# Altium footprint library SPECCY2010_Library.PcbLib: 23 footprints (part 1 of 2)
Each footprint in its own frame and in the unit in brackets; x right, y up, seen from the top. Pads: shape width x height; smd on the part's side, far side on the other; paste and mask are expansions set on the pad; w line width, h text height; cw(c..) or ccw(c..) is an arc to the next point about the centre after c.
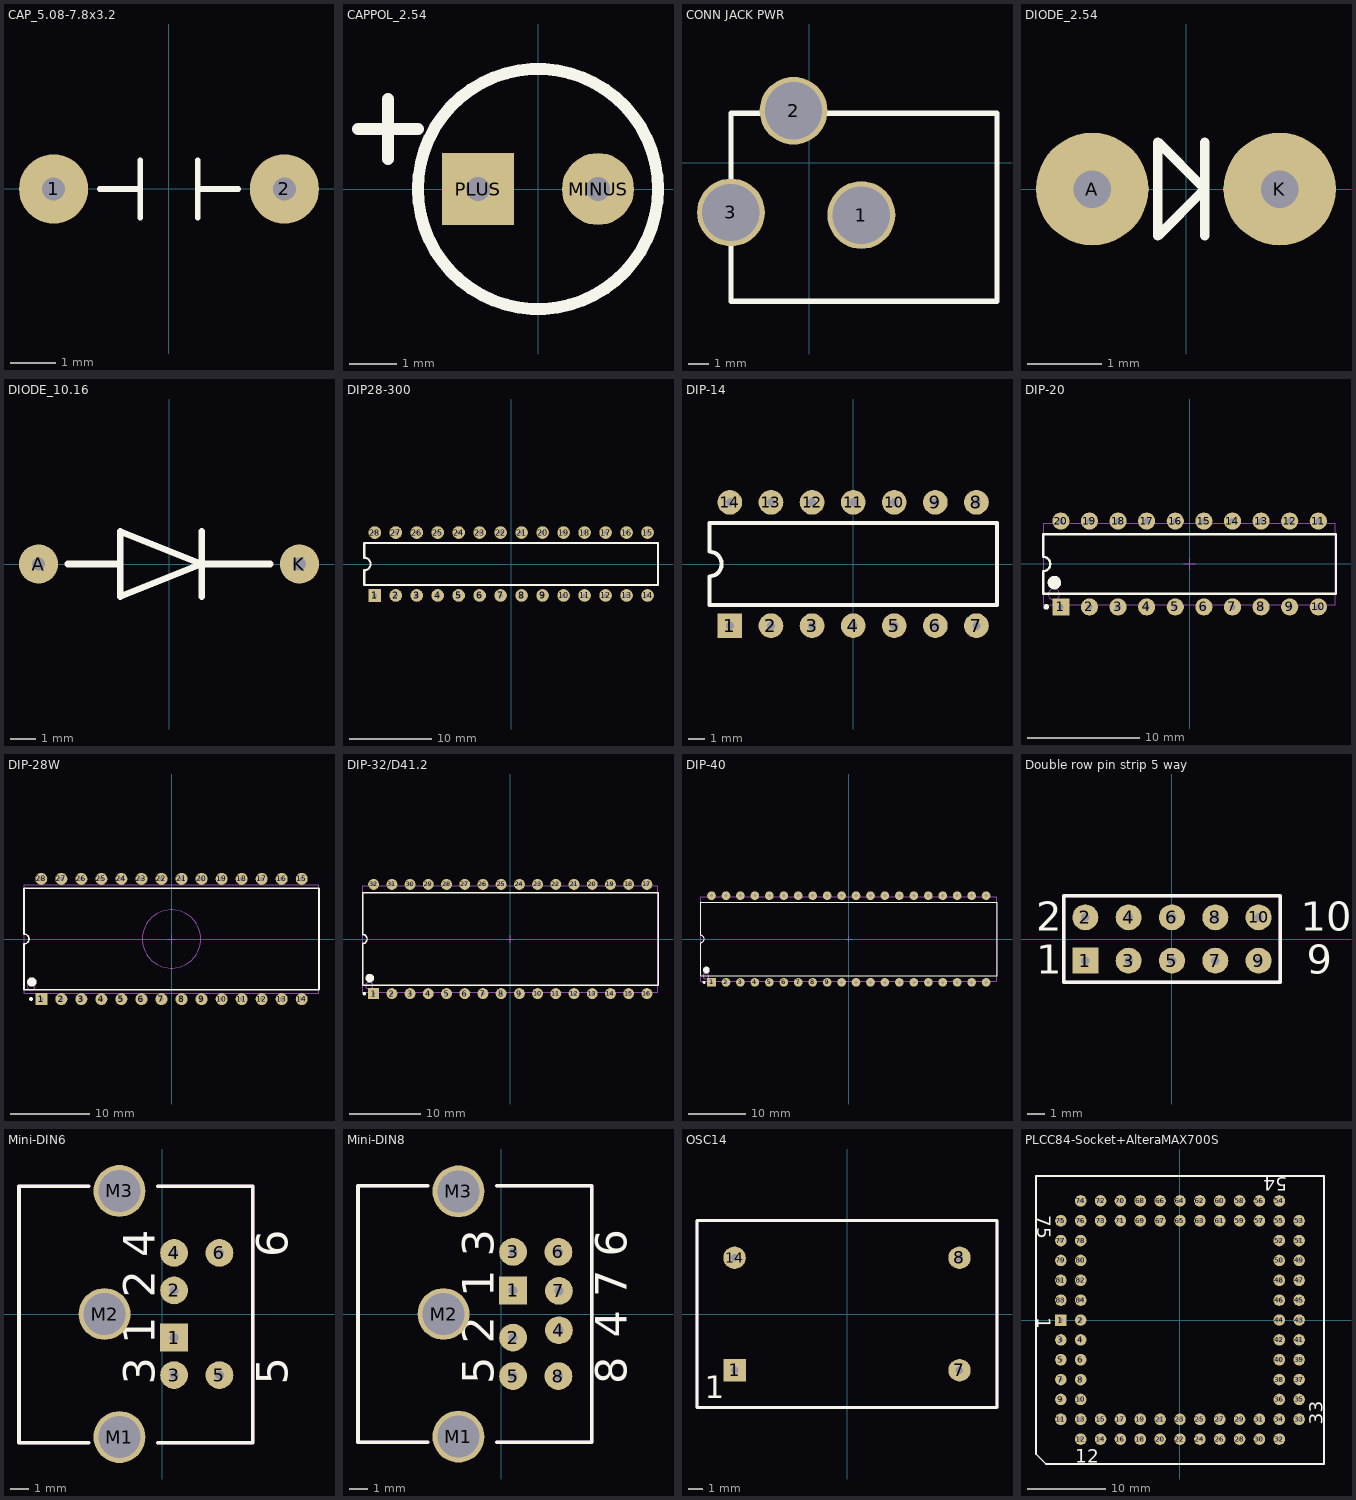
[diagram p0: the footprints below, top view; thin cyan lines are the x and y axes]

## CAP_5.08-7.8x3.2 [mil] "Capacitor, Ceramic, Thru-Hole, Dipped Radial; Body 7.8 x 3.2 mm (WxT) Pin Spacing 5.08 mm (typ)"
height 236.22
pads (2):
  round 60 hole 20: 1(-100,0) 2(100,0)
Top Overlay:
  lines w5: -60,0 -25,0 ; -25,-25 -25,25 ; 25,-25 25,25 ; 25,0 60,0
3D body: height 170, standoff -95.27, extent -110,-42.5 110,42.5

## CAPPOL_2.54 [mil]
height 100
pads (2):
  round 60 hole 20: MINUS(50,0)
  rect 60x60 hole 20: PLUS(-50,0)
Top Overlay:
  circle w10: c0,0 r100
  lines w10: -150,50 -100,50 ; -125,25 -125,75
3D body: height 453.76, standoff -118.67, extent -125.01,-125.01 125.02,125.02

## CONN JACK PWR [mil] "Разъем питания (штекер)"
height 200
pads (3):
  round 130 hole 110: 1(100,-100) 2(-30,100) 3(-150,-95)
Top Overlay:
  lines w10: -150,-265 360,-265 360,95 -150,95 -150,-265
3D body: height 125.67, standoff -453.07, extent -188.01,-270.08 388.01,100

## DIODE_2.54 [mil] "Диод DO35 вертикально"
height 100
pads (2):
  round 60 hole 20 unplated: A(-50,0) K(50,0)
Top Overlay:
  lines w5: 10,-25 10,25 ; -15,-25 -15,25 10,0 -15,-25
  lines w10: -50,0 -25,0 ; 25,0 50,0
3D body: height 196.61, standoff -60, extent -82.48,-32.48 58.5,32.48

## DIODE_10.16 [mil] "Диод DO35 горизонтально"
height 100
pads (2):
  round 60 hole 20 unplated: A(-200,0) K(200,0)
Top Overlay:
  lines w10: -155,0 -75,0 ; 50,-50 50,50 ; 155,0 50,0 ; 50,0 -75,50 -75,-50 50,0
3D body: height 134.5, standoff -50, extent -210.49,-34.5 210.49,34.5

## DIP28-300 [mil] "DIP28 узкий"
height 100
pads (28):
  rect 60x60 hole 20: 1(-650,-150)
  round 60 hole 20: 2(-550,-150) 3(-450,-150) 4(-350,-150) 5(-250,-150) 6(-150,-150) 7(-50,-150) 8(50,-150) 9(150,-150) 10(250,-150) 11(350,-150) 12(450,-150) 13(550,-150) 14(650,-150) 15(650,150) 16(550,150) 17(450,150) 18(350,150) 19(250,150) 20(150,150) 21(50,150) 22(-50,150) 23(-150,150) 24(-250,150) 25(-350,150) 26(-450,150) 27(-550,150) 28(-650,150)
Top Overlay:
  lines w10: -700,-100 700,-100 700,100 -700,100 -700,30 cw(c-700,0) -700,-30 -700,-100
3D body: height 200, standoff -98.03, extent -708.66,-154.92 708.66,154.92

## DIP-14 [mil]
height 100
pads (14):
  rect 60x60 hole 20: 1(-300,-150)
  round 60 hole 20: 2(-200,-150) 3(-100,-150) 4(0,-150) 5(100,-150) 6(200,-150) 7(300,-150) 8(300,150) 9(200,150) 10(100,150) 11(0,150) 12(-100,150) 13(-200,150) 14(-300,150)
Top Overlay:
  lines w10: -350,-100 350,-100 350,100 -350,100 -350,30 cw(c-350,0) -350,-30 -350,-100
3D body: height 200, standoff -98.03, extent -383.86,-154.92 383.86,154.92

## DIP-20 [mil] "DIP, 20-Pin, Row Spacing 7.62 mm, Pitch 2.54 mm"
height 200
pads (20):
  rect 60x60 hole 20: 1(-450,-150)
  round 60 hole 20: 2(-350,-150) 3(-250,-150) 4(-150,-150) 5(-50,-150) 6(50,-150) 7(150,-150) 8(250,-150) 9(350,-150) 10(450,-150) 11(450,150) 12(350,150) 13(250,150) 14(150,150) 15(50,150) 16(-50,150) 17(-150,150) 18(-250,150) 19(-350,150) 20(-450,150)
Top Overlay:
  circle w9.84: c-501.18,-150 r4.92
  circle w23.62: c-472.44,-64.96 r11.81
  lines w7.87: -511.81,-104.33 511.81,-104.33 511.81,104.33 -511.81,104.33 -511.81,25 cw(c-511.81,0) -511.81,-25 -511.81,-104.33
Mechanical 13:
  circle w3.94: c-474.41,-106.3 r19.68
  lines w3.94: -509.84,-141.73 509.84,-141.73 509.84,141.73 -509.84,141.73 -509.84,-141.73
Mechanical 15:
  lines w3.94: -19.68,0 19.68,0 ; 0,-19.68 0,19.68
3D body: height 185, standoff -60, extent -507.5,-155 507.5,155

## DIP-28W [mil] "DIP, 28-Leads, Row Spacing 15.24mm, Pitch 2.54mm, Body 37x13.3mm, Window"
height 225
pads (28):
  rect 60x60 hole 20: 1(-650,-300)
  round 60 hole 20: 2(-550,-300) 3(-450,-300) 4(-350,-300) 5(-250,-300) 6(-150,-300) 7(-50,-300) 8(50,-300) 9(150,-300) 10(250,-300) 11(350,-300) 12(450,-300) 13(550,-300) 14(650,-300) 15(650,300) 16(550,300) 17(450,300) 18(350,300) 19(250,300) 20(150,300) 21(50,300) 22(-50,300) 23(-150,300) 24(-250,300) 25(-350,300) 26(-450,300) 27(-550,300) 28(-650,300)
Top Overlay:
  circle w23.62: c-696.85,-214.57 r11.81
  circle w9.84: c-701.18,-300 r4.92
  lines w7.87: -736.22,-253.94 -736.22,-25 ccw(c-736.22,0) -736.22,25 -736.22,253.94 736.22,253.94 736.22,-253.94 -736.22,-253.94
Mechanical 13:
  circle w3.94: c0,0 r145.67
  circle w3.94: c-700.72,-234.25 r19.68
  lines w3.94: -735.24,-269.69 -735.24,269.69 735.24,269.69 735.24,-269.69 -735.24,-269.69
Mechanical 15:
  lines w3.94: -19.68,0 19.68,0 ; 0,-19.68 0,19.68
3D body: height 225, standoff 15, extent -735.22,-269.67 735.22,269.67
3D body: height 224.41, standoff -101.57, extent -734.25,-304.92 734.25,304.92

## DIP-32/D41.2 [mil] "DIP, Ceramic, 32-Pin, Row Spacing 15.24 mm, Pitch 2.54 mm"
height 200
pads (32):
  rect 60x60 hole 20: 1(-750,-300)
  round 60 hole 20: 2(-650,-300) 3(-550,-300) 4(-450,-300) 5(-350,-300) 6(-250,-300) 7(-150,-300) 8(-50,-300) 9(50,-300) 10(150,-300) 11(250,-300) 12(350,-300) 13(450,-300) 14(550,-300) 15(650,-300) 16(750,-300) 17(750,300) 18(650,300) 19(550,300) 20(450,300) 21(350,300) 22(250,300) 23(150,300) 24(50,300) 25(-50,300) 26(-150,300) 27(-250,300) 28(-350,300) 29(-450,300) 30(-550,300) 31(-650,300) 32(-750,300)
Top Overlay:
  circle w9.84: c-801.18,-300 r4.92
  circle w23.62: c-771.65,-214.57 r11.81
  lines w7.87: -811.02,-253.94 811.02,-253.94 811.02,253.94 -811.02,253.94 -811.02,25 cw(c-811.02,0) -811.02,-25 -811.02,-253.94
Mechanical 13:
  circle w3.94: c-774.61,-255.91 r19.68
  lines w3.94: -810.04,-291.34 810.04,-291.34 810.04,291.34 -810.04,291.34 -810.04,-291.34
Mechanical 15:
  lines w3.94: -19.68,0 19.68,0 ; 0,-19.68 0,19.68
3D body: height 240, standoff -90.2, extent -800,-300 800,305

## DIP-40 [mil] "DIP, 40-Pin, Row Spacing 15.24 mm, Pitch 2.54 mm"
height 200
pads (40):
  rect 60x60 hole 20: 1(-950,-300)
  round 60 hole 20: 2(-850,-300) 3(-750,-300) 4(-650,-300) 5(-550,-300) 6(-450,-300) 7(-350,-300) 8(-250,-300) 9(-150,-300) 10(-50,-300) 11(50,-300) 12(150,-300) 13(250,-300) 14(350,-300) 15(450,-300) 16(550,-300) 17(650,-300) 18(750,-300) 19(850,-300) 20(950,-300) 21(950,300) 22(850,300) 23(750,300) 24(650,300) 25(550,300) 26(450,300) 27(350,300) 28(250,300) 29(150,300) 30(50,300) 31(-50,300) 32(-150,300) 33(-250,300) 34(-350,300) 35(-450,300) 36(-550,300) 37(-650,300) 38(-750,300) 39(-850,300) 40(-950,300)
Top Overlay:
  circle w9.84: c-1001.18,-300 r4.92
  circle w23.62: c-986.22,-214.57 r11.81
  lines w7.87: -1025.59,-253.94 1025.59,-253.94 1025.59,253.94 -1025.59,253.94 -1025.59,25 cw(c-1025.59,0) -1025.59,-25 -1025.59,-253.94
Mechanical 13:
  circle w3.94: c-989.17,-256.89 r19.68
  lines w3.94: -1024.61,-292.32 1024.61,-292.32 1024.61,292.32 -1024.61,292.32 -1024.61,-292.32
Mechanical 15:
  lines w3.94: -19.68,0 19.68,0 ; 0,-19.68 0,19.68
3D body: height 224.41, standoff -101.57, extent -1032.48,-304.92 1032.48,304.92

## Double row pin strip 5 way [mil] "Гребенка на 10 контактов"
height 100
pads (10):
  rect 60x60 hole 20: 1(-200,-50)
  round 60 hole 20: 2(-200,50) 3(-100,-50) 4(-100,50) 5(0,-50) 6(0,50) 7(100,-50) 8(100,50) 9(200,-50) 10(200,50)
Top Overlay:
  lines w8: -250,-100 250,-100 250,100 -250,100 -250,-100
  text "10" at 297.22,19.38 h67.5
  text "1" at -313.88,-80.63 h67.5
  text "2" at -313.88,19.38 h67.5
  text "9" at 311.12,-80.63 h67.5
Mechanical 1:
  lines w8: -250,-100 250,-100 250,100 -250,100 -250,-100
3D body: height 397.64, standoff -59.06, extent -250,-100 250,100

## Mini-DIN6 [mil] "Штекер Mini-DIN 6 pin"
pads (9):
  rect 60x60 hole 20: 1(26,-51)
  round 60 hole 20: 2(26,51) 3(26,-132) 4(26,132) 5(124,-132) 6(124,132)
  round 112 / inner round 60 / far side round 112 hole 91: M1(-92,-266) M2(-124,0) M3(-92,266)
Top Overlay:
  lines w8: -159,-278 -309,-278 -309,276 -159,276 ; -9,-278 196,-278 196,276 -9,276
  text "4" at -15.88,122.62 h67.5
  text "6" at 271.63,122.62 h67.5
  text "3" at -15.88,-152.38 h67.5
  text "1" at -15.88,-64.88 h67.5
  text "2" at -15.88,35.12 h67.5
  text "5" at 271.63,-152.38 h67.5
Mechanical 1:
  lines w8: -159,-278 -309,-278 -309,276 -159,276 ; -9,-278 196,-278 196,276 -9,276
3D body: height 518.03, standoff -123.7, extent -309,-282.28 202.81,282.28

## Mini-DIN8 [mil] "Разъем Mini-DIN 8 pin"
height 200
pads (11):
  rect 60x60 hole 20: 1(26,51)
  round 60 hole 20: 2(26,-51) 3(26,134) 4(125,-35) 5(26,-134) 6(124,134) 7(125,50) 8(124,-134)
  round 112 / inner round 60 / far side round 112 hole 91: M1(-92,-265) M2(-124,0) M3(-92,265)
Top Overlay:
  lines w8: -159,-277 -309,-277 -309,277 -159,277 ; -9,-277 196,-277 196,277 -9,277
  text "8" at 271.63,-151.38 h67.5
  text "6" at 271.63,123.62 h67.5
  text "3" at -15.88,123.62 h67.5
  text "1" at -15.88,36.12 h67.5
  text "2" at -15.88,-63.88 h67.5
  text "4" at 271.63,-51.38 h67.5
  text "7" at 271.63,36.12 h67.5
  text "5" at -15.88,-151.38 h67.5
Mechanical 1:
  lines w8: -159,-277 -309,-277 -309,277 -159,277 ; -9,-277 196,-277 196,277 -9,277
3D body: height 518.03, standoff -123.7, extent -309,-282.28 202.81,282.28

## OSC14 [mil] "Генератор"
height 200
pads (4):
  rect 60x60 hole 20: 1(-300,-150)
  round 60 hole 20: 7(300,-150) 8(300,150) 14(-300,150)
Top Overlay:
  lines w8: -400,-250 -400,250 400,250 400,-250 -400,-250
  text "1" at -380,-225 h60
Mechanical 1:
  lines w8: -400,-250 -400,250 400,250 400,-250 -400,-250
3D body: height 192.91, standoff -248.03, extent -398.62,-248.03 398.63,248.03

## PLCC84-Socket+AlteraMAX700S [mil] "Панелька для PLCC84"
height 100
pads (84):
  rect 58x58 hole 20: 1(-600,0)
  round 58 hole 20: 2(-500,0) 3(-600,-100) 4(-500,-100) 5(-600,-200) 6(-500,-200) 7(-600,-300) 8(-500,-300) 9(-600,-400) 10(-500,-400) 11(-600,-500) 12(-500,-600) 13(-500,-500) 14(-400,-600) 15(-400,-500) 16(-300,-600) 17(-300,-500) 18(-200,-600) 19(-200,-500) 20(-100,-600) 21(-100,-500) 22(0,-600) 23(0,-500) 24(100,-600) 25(100,-500) 26(200,-600) 27(200,-500) 28(300,-600) 29(300,-500) 30(400,-600) 31(400,-500) 32(500,-600) 33(600,-500) 34(500,-500) 35(600,-400) 36(500,-400) 37(600,-300) 38(500,-300) 39(600,-200) 40(500,-200) 41(600,-100) 42(500,-100) 43(600,0) 44(500,0) 45(600,100) 46(500,100) 47(600,200) 48(500,200) 49(600,300) 50(500,300) 51(600,400) 52(500,400) 53(600,500) 54(500,600) 55(500,500) 56(400,600) 57(400,500) 58(300,600) 59(300,500) 60(200,600) 61(200,500) 62(100,600) 63(100,500) 64(0,600) 65(0,500) 66(-100,600) 67(-100,500) 68(-200,600) 69(-200,500) 70(-300,600) 71(-300,500) 72(-400,600) 73(-400,500) 74(-500,600) 75(-600,500) 76(-500,500) 77(-600,400) 78(-500,400) 79(-600,300) 80(-500,300) 81(-600,200) 82(-500,200) 83(-600,100) 84(-500,100)
Top Overlay:
  lines w8: -725,-675 -725,725 725,725 725,-725 -675,-725 -725,-675
  text "1" at -718.13,13.88 h67.5
  text "12" at -527.78,-718.13 h67.5
  text "33" at 718.13,-527.78 h67.5
  text "54" at 540.28,718.13 h67.5
  text "75" at -718.13,527.78 h67.5
Mechanical 1:
  lines w8: -725,-675 -725,725 725,725 725,-725 -675,-725 -725,-675
  text "1" at -718.13,13.88 h67.5
  text "12" at -527.78,-718.13 h67.5
  text "33" at 718.13,-527.78 h67.5
  text "54" at 540.28,718.13 h67.5
  text "75" at -718.13,527.78 h67.5
3D body: height 349.37, standoff -179.76, extent -691.93,-691.93 691.93,691.93